# Altium integrated library MAX7219CNG.IntLib: 1 symbol
Pins are listed as number, name and electrical type; pins without a type are passive.

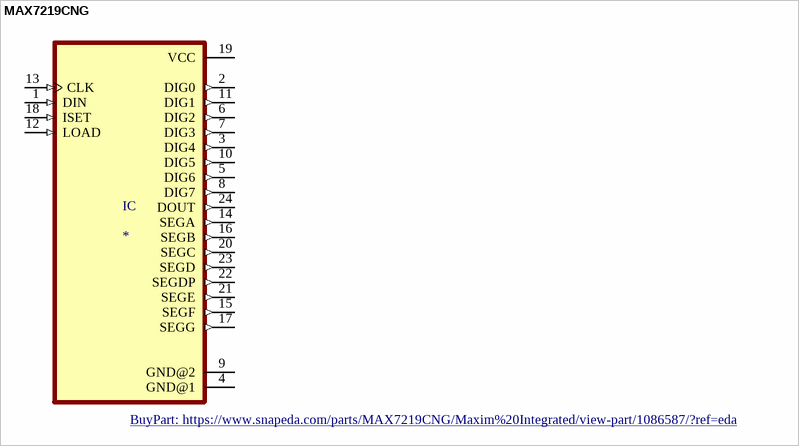
[diagram p0: symbol MAX7219CNG]

## MAX7219CNG
designator IC
IC DRVR 7 SEGMENT 8 DIGIT 24DIP; MF: Maxim Integrated; MP: MAX7219CNG; DigiKey-Purchase-URL: https://snapeda.com/shop?store=DigiKey&id=1086587; SnapEDA_Link: https://www.snapeda.com/parts/MAX7219CNG/Maxim%20Integrated/view-part/1086587/?ref=snap; Availability: Warning; Price: None; Value: *; Package: DIP-24 Maxim Integrated; BuyPart: https://www.snapeda.com/parts/MAX7219CNG/Maxim%20Integrated/view-part/1086587/?ref=eda
footprint DIP794W47P254L3213H457Q24
pins: 1 DIN (in), 2 DIG0 (out), 3 DIG4 (out), 4 GND@1 (power), 5 DIG6 (out), 6 DIG2 (out), 7 DIG3 (out), 8 DIG7 (out), 9 GND@2 (power), 10 DIG5 (out), 11 DIG1 (out), 12 LOAD (in), 13 CLK (in), 14 SEGA (out), 15 SEGF (out), 16 SEGB (out), 17 SEGG (out), 18 ISET (in), 19 VCC (power), 20 SEGC (out), 21 SEGE (out), 22 SEGDP (out), 23 SEGD (out), 24 DOUT (out)